# Altium schematic symbol library IRF9Z24NPBF.SchLib: 1 symbol
Pins are listed as number, name and electrical type; pins without a type are passive.

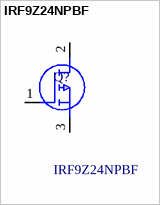
[diagram p0: symbol IRF9Z24NPBF]

## IRF9Z24NPBF
designator Q?
Infineon IRF9Z24NPBF P-channel MOSFET Transistor, 12 A, 55 V, 3-Pin TO-220AB; Geometry.Height: 4.69mm; Mouser Part Number: 942-IRF9Z24NPBF; Mouser Price/Stock: https://www.mouser.co.uk/ProductDetail/Infineon-IR/IRF9Z24NPBF?qs=9%252BKlkBgLFf36xC9PMFW8Lg%3D%3D; Manufacturer_Name: Infineon; Manufacturer_Part_Number: IRF9Z24NPBF; Datasheet Link: https://www.infineon.com/dgdl/irf9z24npbf.pdf?fileId=5546d462533600a40153561218961ddb
footprint TO254P469X1042X1967-3P
pins: 1 G, 2 D, 3 S